# Altium integrated library IC.IntLib: 41 symbols
Pins are listed as number, name and electrical type; pins without a type are passive.

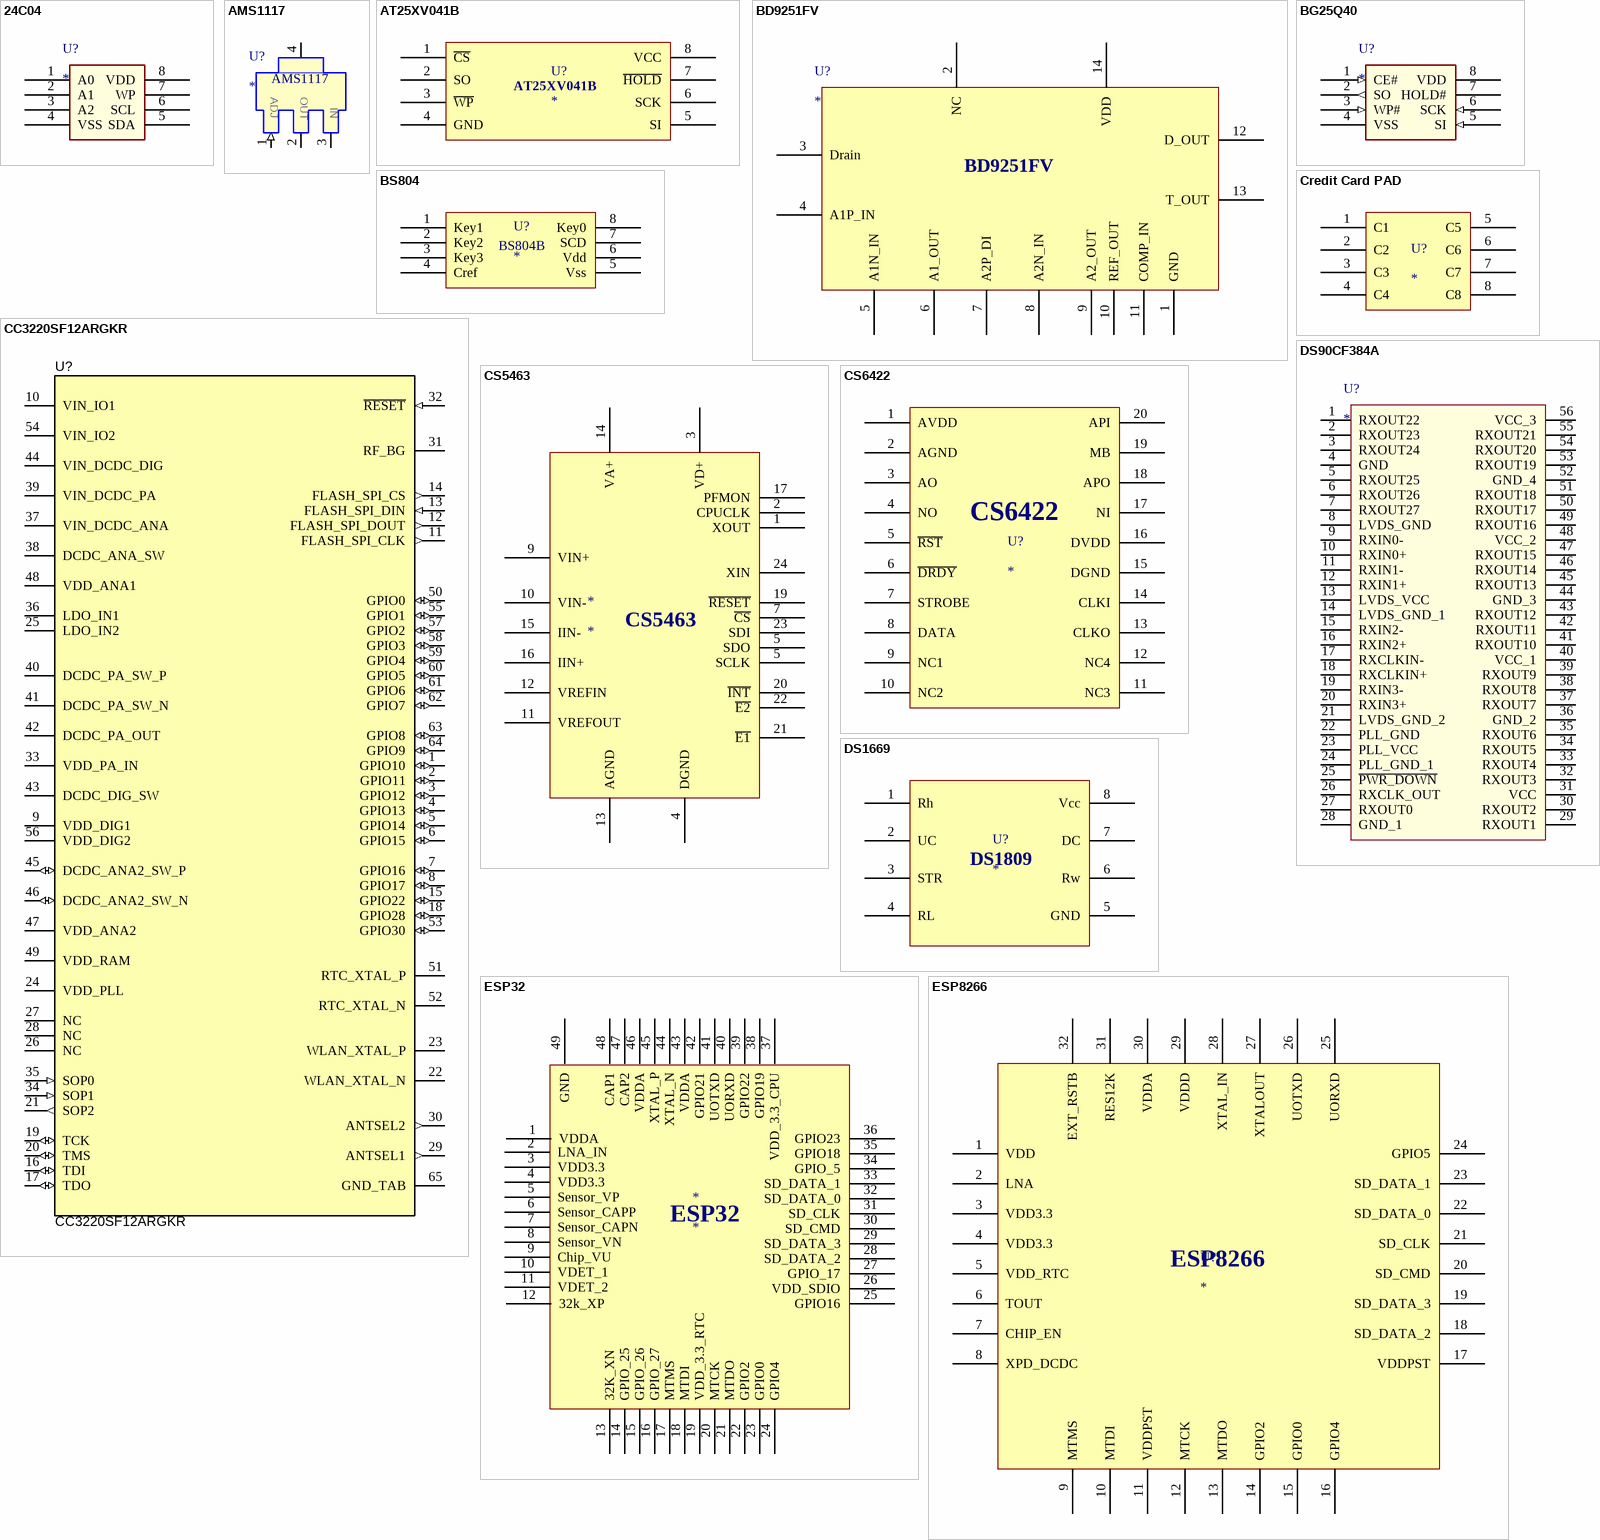
[diagram p0: symbols 24C04 to ESP8266]

## 24C04
designator U?
footprint SOIC-8
pins: 1 A0, 2 A1, 3 A2, 4 VSS, 5 SDA, 6 SCL, 7 WP, 8 VDD

## AMS1117
designator U?
footprint SOT223 (SOT223, 4-Leads, Body 6.50x7.00mm (avg), Pitch 2.30mm, IPC Medium Density)
pins: 1 ADJ (in), 2 OUT (power), 3 IN (power), 4 VOUT (power)

## AT25XV041B
designator U?
footprint 8-UDFN (8-UDFN, 8-Leads, Body 1.95x2.95mm, Pitch 0.50mm, IPC Medium Density)
pins: 1 ~{CS}, 2 SO, 3 ~{WP}, 4 GND, 5 SI, 6 SCK, 7 ~{HOLD}, 8 VCC

## BD9251FV
designator U?
footprint SSOP-B14 (SSOP, 14-Leads, Body 5.10x4.50mm, Pitch 0.65mm, IPC Medium Density)
pins: 1 GND, 2 NC, 3 Drain, 4 A1P_IN, 5 A1N_IN, 6 A1_OUT, 7 A2P_DI, 8 A2N_IN, 9 A2_OUT, 10 REF_OUT, 11 COMP_IN, 12 D_OUT, 13 T_OUT, 14 VDD

## BG25Q40
designator U?
footprint SOIC-8
pins: 1 CE# (in), 2 SO (out), 3 WP# (in), 4 VSS (power), 5 SI (in), 6 SCK (in), 7 HOLD#, 8 VDD (power)

## BS804
designator U?
footprint SOP-8
pins: 1 Key1, 2 Key2, 3 Key3, 4 Cref, 5 Vss, 6 Vdd, 7 SCD, 8 Key0
text: BS804B

## CC3220SF12ARGKR
designator U?
SimpleLink Wi-Fi and Internet-of-Things Solution, a Single-Chip Wireless MCU, RGK0064B (VQFN-64); Alternate PartNumber: CC3220SF12ARGKT; Manufacturer: Texas Instruments; SymbolCreator: Altium; CompType: IC; U/M: EA; SizeArea_mm2: 81; SizeAreaWB_mm2: 121; SizeX_mm: 9; SizeZ_mm: 1; SymbolVersion: 2015-09-21; PartNumber: CC3220SF12ARGKR; PackageReference: RGK0064B; MountType: SMT; ComponentLink1Description: Datasheet Link; ComponentLink1URL: https://sps06.itg.ti.com/sites/KMS/crossdivteams/altium/docs/ComponentDatasheets/SWAS035_CC3220_Advanced_Information_July2015.pdf; Publisher: Texas Instruments; LatestRevisionDate: 2016-11-18; Alternate Manufacturer: Texas Instruments; PackageDescription: VQFN-64; SizeY_mm: 9
footprint RGK0064B
pins: 1 GPIO10 (io), 2 GPIO11 (io), 3 GPIO12 (io), 4 GPIO13 (io), 5 GPIO14 (io), 6 GPIO15 (io), 7 GPIO16 (io), 8 GPIO17 (io), 9 VDD_DIG1 (power), 10 VIN_IO1 (power), 11 FLASH_SPI_CLK (out), 12 FLASH_SPI_DOUT (out), 13 FLASH_SPI_DIN (in), 14 FLASH_SPI_CS (out), 15 GPIO22 (io), 16 TDI (io), 17 TDO (io), 18 GPIO28 (io), 19 TCK (io), 20 TMS (io), 21 SOP2 (out), 22 WLAN_XTAL_N, 23 WLAN_XTAL_P, 24 VDD_PLL (power), 25 LDO_IN2 (power), 26 NC, 27 NC, 28 NC, 29 ANTSEL1 (out), 30 ANTSEL2 (out), 31 RF_BG, 32 ~{RESET} (in), 33 VDD_PA_IN (power), 34 SOP1 (in), 35 SOP0 (in), 36 LDO_IN1 (power), 37 VIN_DCDC_ANA (power), 38 DCDC_ANA_SW (power), 39 VIN_DCDC_PA (power), 40 DCDC_PA_SW_P (power), 41 DCDC_PA_SW_N (power), 42 DCDC_PA_OUT (power), 43 DCDC_DIG_SW (power), 44 VIN_DCDC_DIG (power), 45 DCDC_ANA2_SW_P (io), 46 DCDC_ANA2_SW_N (io), 47 VDD_ANA2 (power), 48 VDD_ANA1 (power), 49 VDD_RAM (power), 50 GPIO0 (io), 51 RTC_XTAL_P, 52 RTC_XTAL_N, 53 GPIO30 (io), 54 VIN_IO2 (power), 55 GPIO1 (io), 56 VDD_DIG2 (power), 57 GPIO2 (io), 58 GPIO3 (io), 59 GPIO4 (io), 60 GPIO5 (io), 61 GPIO6 (io), 62 GPIO7 (io), 63 GPIO8 (io), 64 GPIO9 (io), 65 GND_TAB (power)

## Credit Card PAD
designator U?
footprint Sim_Pad
pins: 1 C1, 2 C2, 3 C3, 4 C4, 5 C5, 6 C6, 7 C7, 8 C8

## CS5463
designator *
pins: 1 XOUT, 2 CPUCLK, 3 VD+, 4 DGND, 5 SCLK, 5 SDO, 7 ~{CS}, 9 VIN+, 10 VIN-, 11 VREFOUT, 12 VREFIN, 13 AGND, 14 VA+, 15 IIN-, 16 IIN+, 17 PFMON, 19 ~{RESET}, 20 ~{INT}, 21 ~{E1}, 22 ~{E2}, 23 SDI, 24 XIN

## CS6422
designator U?
Supplier 1: Mouser; Supplier Part Number 1: 777-CS6422-CSZR
footprint SOIC20
pins: 1 AVDD, 2 AGND, 3 AO, 4 NO, 5 ~{RST}, 6 ~{DRDY}, 7 STROBE, 8 DATA, 9 NC1, 10 NC2, 11 NC3, 12 NC4, 13 CLKO, 14 CLKI, 15 DGND, 16 DVDD, 17 NI, 18 APO, 19 MB, 20 API

## DS90CF384A
designator U?
DS90CF384A
footprint TSSOP-56
pins: 1 RXOUT22, 2 RXOUT23, 3 RXOUT24, 4 GND, 5 RXOUT25, 6 RXOUT26, 7 RXOUT27, 8 LVDS_GND, 9 RXIN0-, 10 RXIN0+, 11 RXIN1-, 12 RXIN1+, 13 LVDS_VCC (power), 14 LVDS_GND_1, 15 RXIN2-, 16 RXIN2+, 17 RXCLKIN-, 18 RXCLKIN+, 19 RXIN3-, 20 RXIN3+, 21 LVDS_GND_2, 22 PLL_GND, 23 PLL_VCC (power), 24 PLL_GND_1, 25 ~{PWR_DOWN}, 26 RXCLK_OUT, 27 RXOUT0, 28 GND_1, 29 RXOUT1, 30 RXOUT2, 31 VCC (power), 32 RXOUT3, 33 RXOUT4, 34 RXOUT5, 35 RXOUT6, 36 GND_2, 37 RXOUT7, 38 RXOUT8, 39 RXOUT9, 40 VCC_1 (power), 41 RXOUT10, 42 RXOUT11, 43 RXOUT12, 44 GND_3, 45 RXOUT13, 46 RXOUT14, 47 RXOUT15, 48 VCC_2 (power), 49 RXOUT16, 50 RXOUT17, 51 RXOUT18, 52 GND_4, 53 RXOUT19, 54 RXOUT20, 55 RXOUT21, 56 VCC_3 (power)

## DS1669
designator U?
footprint uSOP-8
pins: 1 Rh, 2 UC, 3 STR, 4 RL, 5 GND, 6 Rw, 7 DC, 8 Vcc
text: DS1809

## ESP32
designator *
footprint QFN48_6x6 (QFN, 48-Leads, Body 6.05x6.05mm, Pitch 0.40mm, Thermal Pad 4.25x4.25mm, IPC Medium Density)
pins: 1 VDDA, 2 LNA_IN, 3 VDD3.3, 4 VDD3.3, 5 Sensor_VP, 6 Sensor_CAPP, 7 Sensor_CAPN, 8 Sensor_VN, 9 Chip_VU, 10 VDET_1, 11 VDET_2, 12 32k_XP, 13 32K_XN, 14 GPIO_25, 15 GPIO_26, 16 GPIO_27, 17 MTMS, 18 MTDI, 19 VDD_3.3_RTC, 20 MTCK, 21 MTDO, 22 GPIO2, 23 GPIO0, 24 GPIO4, 25 GPIO16, 26 VDD_SDIO, 27 GPIO_17, 28 SD_DATA_2, 29 SD_DATA_3, 30 SD_CMD, 31 SD_CLK, 32 SD_DATA_0, 33 SD_DATA_1, 34 GPIO_5, 35 GPIO18, 36 GPIO23, 37 VDD_3.3_CPU, 38 GPIO19, 39 GPIO22, 40 UORXD, 41 UOTXD, 42 GPIO21, 43 VDDA, 44 XTAL_N, 45 XTAL_P, 46 VDDA, 47 CAP2, 48 CAP1, 49 GND

## ESP8266
designator U?
footprint QFN32
pins: 1 VDD, 2 LNA, 3 VDD3.3, 4 VDD3.3, 5 VDD_RTC, 6 TOUT, 7 CHIP_EN, 8 XPD_DCDC, 9 MTMS, 10 MTDI, 11 VDDPST, 12 MTCK, 13 MTDO, 14 GPIO2, 15 GPIO0, 16 GPIO4, 17 VDDPST, 18 SD_DATA_2, 19 SD_DATA_3, 20 SD_CMD, 21 SD_CLK, 22 SD_DATA_0, 23 SD_DATA_1, 24 GPIO5, 25 UORXD, 26 UOTXD, 27 XTALOUT, 28 XTAL_IN, 29 VDDD, 30 VDDA, 31 RES12K, 32 EXT_RSTB

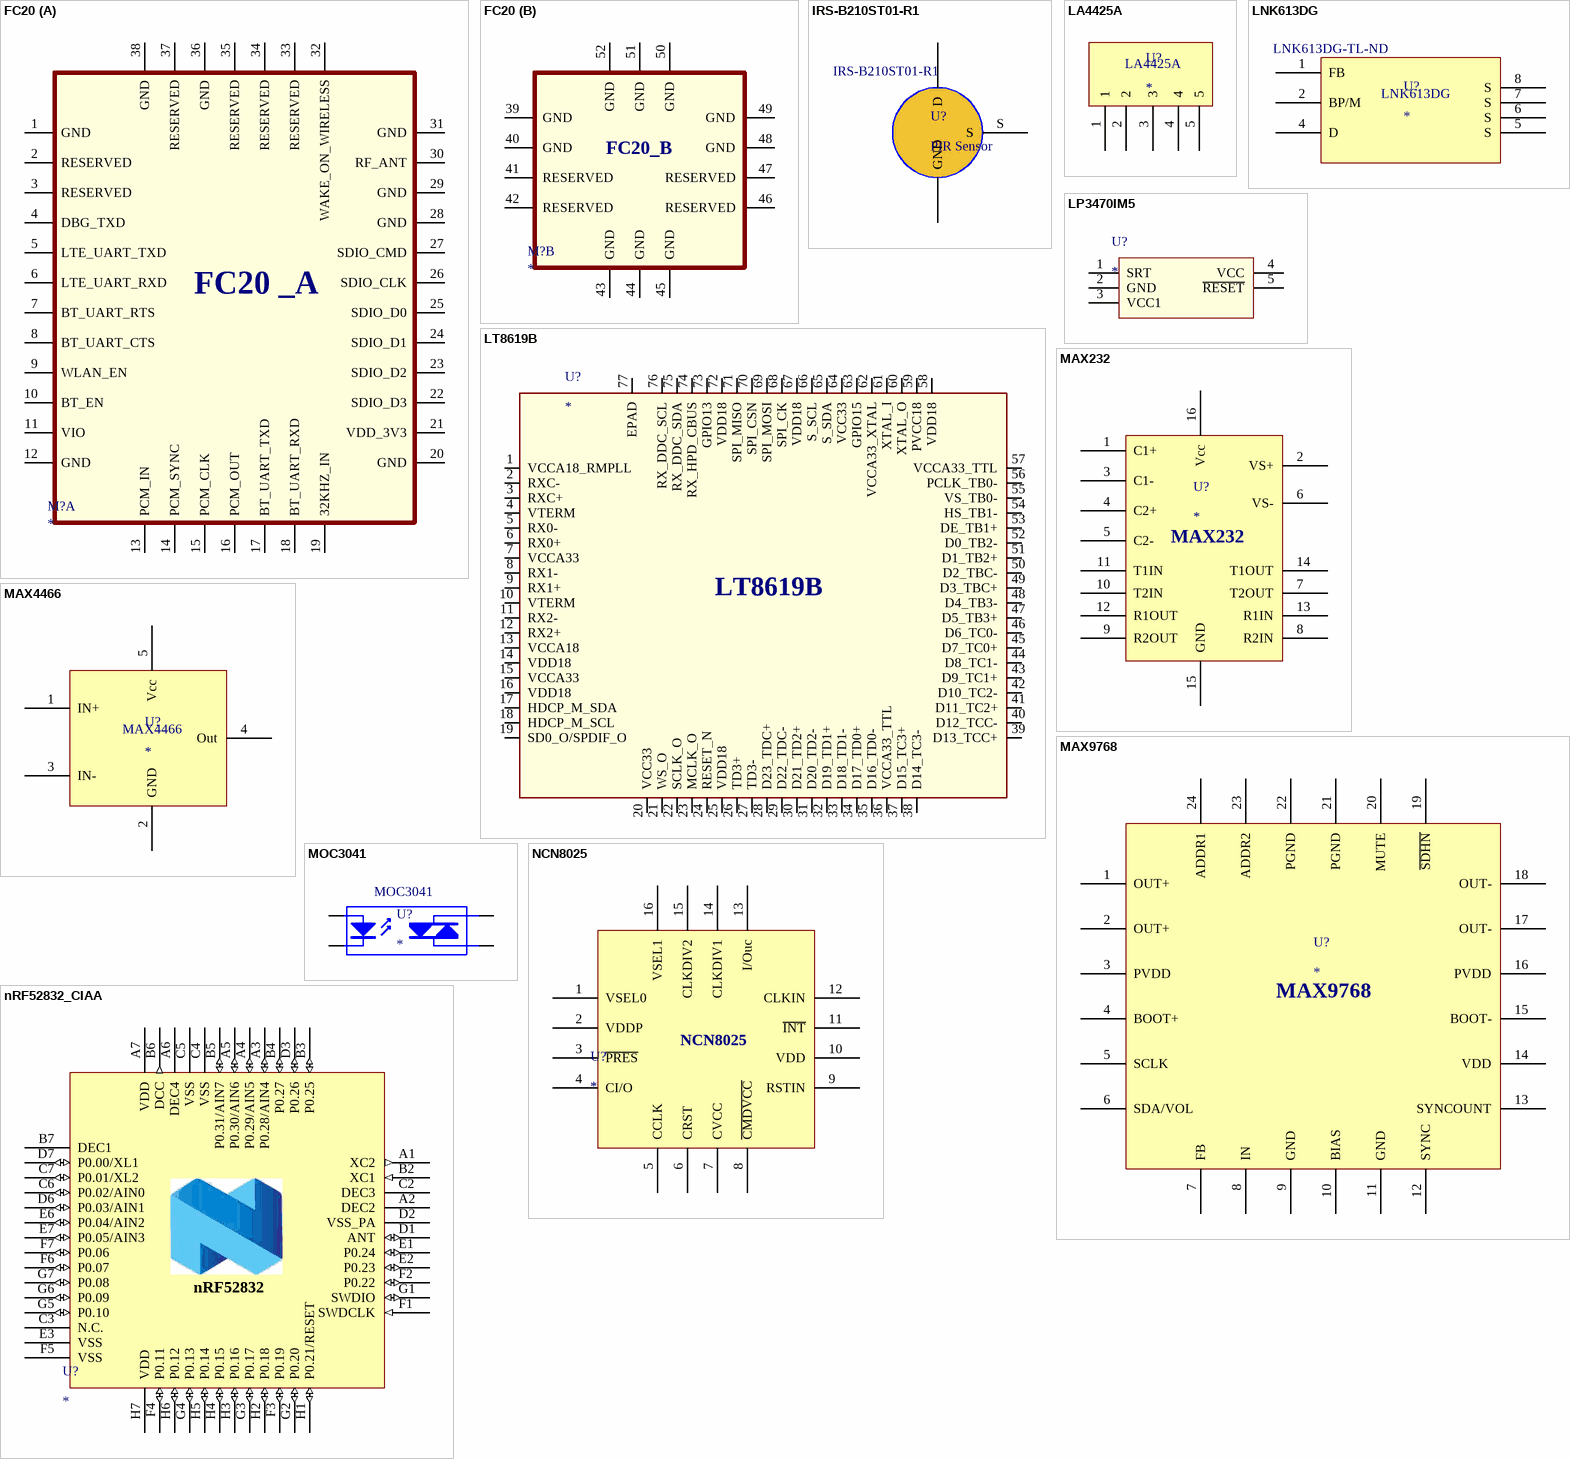
[diagram p1: symbols FC20 to nRF52832_CIAA]

## FC20
designator M?
footprint FC_20
part A pins: 1 GND, 2 RESERVED, 3 RESERVED, 4 DBG_TXD, 5 LTE_UART_TXD, 6 LTE_UART_RXD, 7 BT_UART_RTS, 8 BT_UART_CTS, 9 WLAN_EN, 10 BT_EN, 11 VIO, 12 GND, 13 PCM_IN, 14 PCM_SYNC, 15 PCM_CLK, 16 PCM_OUT, 17 BT_UART_TXD, 18 BT_UART_RXD, 19 32KHZ_IN, 20 GND, 21 VDD_3V3, 22 SDIO_D3, 23 SDIO_D2, 24 SDIO_D1, 25 SDIO_D0, 26 SDIO_CLK, 27 SDIO_CMD, 28 GND, 29 GND, 30 RF_ANT, 31 GND, 32 WAKE_ON_WIRELESS, 33 RESERVED, 34 RESERVED, 35 RESERVED, 36 GND, 37 RESERVED, 38 GND
part B pins: 39 GND, 40 GND, 41 RESERVED, 42 RESERVED, 43 GND, 44 GND, 45 GND, 46 RESERVED, 47 RESERVED, 48 GND, 49 GND, 50 GND, 51 GND, 52 GND
part A text: FC20 _A
part B text: FC20_B

## IRS-B210ST01-R1
designator U?, comment PIR Sensor
Supplier 1: Digi-Key; Supplier Part Number 1: 490-12776-1-ND
footprint IRS-B210ST01-R1
pins: D, G GND, S

## LA4425A
designator U?
footprint LA4425A
pins: 1, 2, 3, 4, 5

## LNK613DG
designator U?  Supplier Part Number 1: LNK613DG-TL-ND
Supplier 1: Digi-Key
footprint SO-8C
pins: 1 FB, 2 BP/M, 4 D, 5 S, 6 S, 7 S, 8 S

## LP3470IM5
designator U?
footprint SOT23_5
pins: 1 SRT, 2 GND, 3 VCC1, 4 VCC, 5 ~{RESET}

## LT8619B
designator U?
footprint QFN76
pins: 1 VCCA18_RMPLL, 2 RXC-, 3 RXC+, 4 VTERM, 5 RX0-, 6 RX0+, 7 VCCA33, 8 RX1-, 9 RX1+, 10 VTERM, 11 RX2-, 12 RX2+, 13 VCCA18, 14 VDD18, 15 VCCA33, 16 VDD18, 17 HDCP_M_SDA, 18 HDCP_M_SCL, 19 SD0_O/SPDIF_O, 20 VCC33, 21 WS_O, 22 SCLK_O, 23 MCLK_O, 24 RESET_N, 25 VDD18, 26 TD3+, 27 TD3-, 28 D23_TDC+, 29 D22_TDC-, 30 D21_TD2+, 31 D20_TD2-, 32 D19_TD1+, 33 D18_TD1-, 34 D17_TD0+, 35 D16_TD0-, 36 VCCA33_TTL, 37 D15_TC3+, 38 D14_TC3-, 39 D13_TCC+, 40 D12_TCC-, 41 D11_TC2+, 42 D10_TC2-, 43 D9_TC1+, 44 D8_TC1-, 45 D7_TC0+, 46 D6_TC0-, 47 D5_TB3+, 48 D4_TB3-, 49 D3_TBC+, 50 D2_TBC-, 51 D1_TB2+, 52 D0_TB2-, 53 DE_TB1+, 54 HS_TB1-, 55 VS_TB0-, 56 PCLK_TB0-, 57 VCCA33_TTL, 58 VDD18, 59 PVCC18, 60 XTAL_O, 61 XTAL_I, 62 VCCA33_XTAL, 63 GPIO15, 64 VCC33, 65 S_SDA, 66 S_SCL, 67 VDD18, 68 SPI_CK, 69 SPI_MOSI, 70 SPI_CSN, 71 SPI_MISO, 72 VDD18, 73 GPIO13, 74 RX_HPD_CBUS, 75 RX_DDC_SDA, 76 RX_DDC_SCL, 77 EPAD

## MAX232
designator U?
footprint SOIC16 (9.90 mm × 3.91 mm)
pins: 1 C1+, 2 VS+, 3 C1-, 4 C2+, 5 C2-, 6 VS-, 7 T2OUT, 8 R2IN, 9 R2OUT, 10 T2IN, 11 T1IN , 12 R1OUT, 13 R1IN, 14 T1OUT, 15 GND, 16 Vcc

## MAX4466
designator U?
footprint SOT23
pins: 1 IN+, 2 GND, 3 IN-, 4 Out, 5 Vcc

## MAX9768
designator U?
footprint TQFN-24 4x4
pins: 1 OUT+, 2 OUT+, 3 PVDD, 4 BOOT+, 5 SCLK, 6 SDA/VOL, 7 FB, 8 IN, 9 GND, 10 BIAS, 11 GND, 12 SYNC, 13 SYNCOUNT, 14 VDD, 15 BOOT-, 16 PVDD, 17 OUT-, 18 OUT-, 19 ~{SDHN}, 20 MUTE, 21 PGND, 22 PGND, 23 ADDR2, 24 ADDR1

## MOC3041
designator U?
Supplier 1: RSComponents; Supplier Part Number 1: 806-6023P
footprint SMT-6 PIN (SOP, 6-Leads, Body 8.50x6.35mm, Pitch 2.54mm, IPC Medium Density)
pins: 1 A, 2 K, 4 A/K, 6 A/K

## NCN8025
designator U?
footprint QFN-16
pins: 1 VSEL0, 2 VDDP, 3 ~{PRES}, 4 CI/O, 5 CCLK, 6 CRST, 7 CVCC, 8 ~{CMDVCC}, 9 RSTIN, 10 VDD, 11 ~{INT}, 12 CLKIN, 13 I/Ouc, 14 CLKDIV1, 15 CLKDIV2, 16 VSEL1

## nRF52832_CIAA
designator U?
footprint BGA50C40P7X8_295X322X50
pins: A1 XC2 (out), A2 DEC2 (power), A3 P0.28/AIN4 (io), A4 P0.29/AIN5 (io), A5 P0.30/AIN6 (io), A6 DEC4 (power), A7 VDD (power), B2 XC1 (in), B3 P0.25 (io), B4 P0.27 (io), B5 P0.31/AIN7 (io), B6 DCC (out), B7 DEC1 (power), C2 DEC3 (power), C3 N.C. (power), C4 VSS (power), C5 VSS (power), C6 P0.02/AIN0 (io), C7 P0.01/XL2 (io), D1 ANT (io), D2 VSS_PA (power), D3 P0.26 (io), D6 P0.03/AIN1 (io), D7 P0.00/XL1 (io), E1 P0.24 (io), E2 P0.23 (io), E3 VSS (power), E6 P0.04/AIN2 (io), E7 P0.05/AIN3 (io), F1 SWDCLK (in), F2 P0.22 (io), F3 P0.19 (io), F4 P0.11 (io), F5 VSS (power), F6 P0.07 (io), F7 P0.06 (io), G1 SWDIO (io), G2 P0.20 (io), G3 P0.17 (io), G4 P0.13 (io), G5 P0.10 (io), G6 P0.09 (io), G7 P0.08 (io), H1 P0.21/RESET (io), H2 P0.18 (io), H3 P0.16 (io), H4 P0.15 (io), H5 P0.14 (io), H6 P0.12 (io), H7 VDD (power)
text: nRF52832

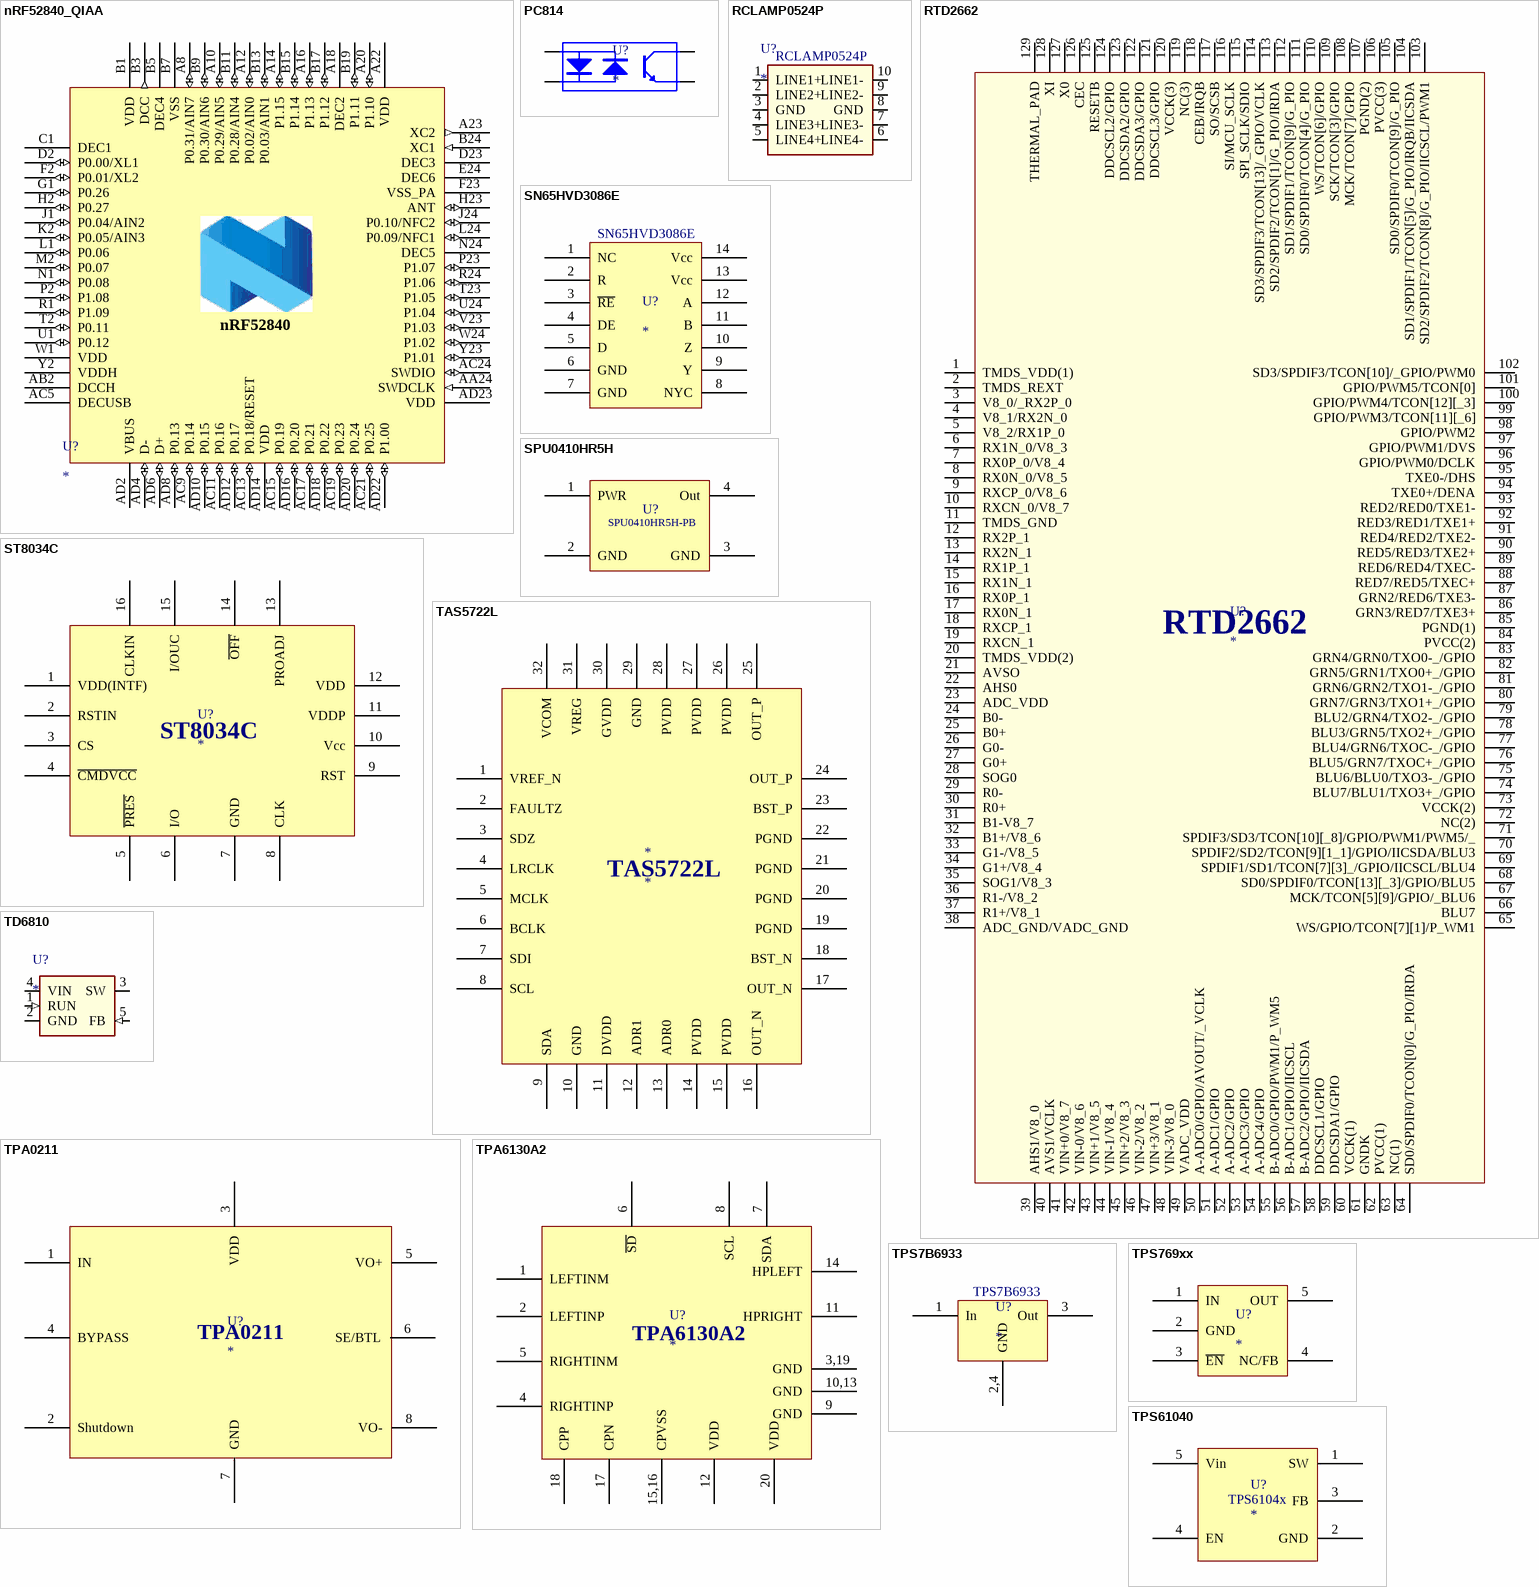
[diagram p2: symbols nRF52840_QIAA to TPS61040]

## nRF52840_QIAA
designator U?
footprint nRF52840_QIAA
pins: A8 P0.31/AIN7 (io), A10 P0.29/AIN5 (io), A12 P0.02/AIN0 (io), A14 P1.15 (io), A16 P1.13 (io), A18 DEC2 (power), A20 P1.10 (io), A22 VDD (power), A23 XC2 (out), AA24 SWDCLK (in), AB2 DCCH (power), AC5 DECUSB (power), AC9 P0.14 (io), AC11 P0.16 (io), AC13 P0.18/RESET (io), AC15 P0.19 (io), AC17 P0.21 (io), AC19 P0.23 (io), AC21 P0.25 (io), AC24 SWDIO (io), AD2 VBUS (power), AD4 D- (io), AD6 D+ (io), AD8 P0.13 (io), AD10 P0.15 (io), AD12 P0.17 (io), AD14 VDD (power), AD16 P0.20 (io), AD18 P0.22 (io), AD20 P0.24 (io), AD22 P1.00 (io), AD23 VDD (power), B1 VDD (power), B3 DCC (out), B5 DEC4 (power), B7 VSS (power), B9 P0.30/AIN6 (io), B11 P0.28/AIN4 (io), B13 P0.03/AIN1 (io), B15 P1.14 (io), B17 P1.12 (io), B19 P1.11 (io), B24 XC1 (in), C1 DEC1 (power), D2 P0.00/XL1 (io), D23 DEC3 (power), E24 DEC6 (power), F2 P0.01/XL2 (io), F23 VSS_PA (power), G1 P0.26 (io), H2 P0.27 (io), H23 ANT (io), J1 P0.04/AIN2 (io), J24 P0.10/NFC2 (io), K2 P0.05/AIN3 (io), L1 P0.06 (io), L24 P0.09/NFC1 (io), M2 P0.07 (io), N1 P0.08 (io), N24 DEC5 (power), P2 P1.08 (io), P23 P1.07 (io), R1 P1.09 (io), R24 P1.06 (io), T2 P0.11 (io), T23 P1.05 (io), U1 P0.12 (io), U24 P1.04 (io), V23 P1.03 (io), W1 VDD (power), W24 P1.02 (io), Y2 VDDH (power), Y23 P1.01 (io)
text: nRF52840

## PC814
designator U?
footprint SMT-4
pins: 1 A "Anode", 2 K "Cathode", 3 E "Emitter", 4 C "Collector"

## RCLAMP0524P
designator U?
footprint RCLAMP0524P
pins: 1 LINE1+, 2 LINE2+, 3 GND (power), 4 LINE3+, 5 LINE4+, 6 LINE4-, 7 LINE3-, 8 GND (power), 9 LINE2-, 10 LINE1-

## RTD2662
designator U?
footprint QFP128
pins: 1 TMDS_VDD(1), 2 TMDS_REXT, 3 V8_0/_RX2P_0, 4 V8_1/RX2N_0, 5 V8_2/RX1P_0, 6 RX1N_0/V8_3, 7 RX0P_0/V8_4, 8 RX0N_0/V8_5, 9 RXCP_0/V8_6, 10 RXCN_0/V8_7, 11 TMDS_GND, 12 RX2P_1, 13 RX2N_1, 14 RX1P_1, 15 RX1N_1, 16 RX0P_1, 17 RX0N_1, 18 RXCP_1, 19 RXCN_1, 20 TMDS_VDD(2), 21 AVSO, 22 AHS0, 23 ADC_VDD, 24 B0-, 25 B0+, 26 G0-, 27 G0+, 28 SOG0, 29 R0-, 30 R0+, 31 B1-V8_7, 32 B1+/V8_6, 33 G1-/V8_5, 34 G1+/V8_4, 35 SOG1/V8_3, 36 R1-/V8_2, 37 R1+/V8_1, 38 ADC_GND/VADC_GND, 39 AHS1/V8_0, 40 AVS1/VCLK, 41 VIN+0/V8_7, 42 VIN-0/V8_6, 43 VIN+1/V8_5, 44 VIN-1/V8_4, 45 VIN+2/V8_3, 46 VIN-2/V8_2, 47 VIN+3/V8_1, 48 VIN-3/V8_0, 49 VADC_VDD, 50 A-ADC0/GPIO/AVOUT/_VCLK, 51 A-ADC1/GPIO, 52 A-ADC2/GPIO, 53 A-ADC3/GPIO, 54 A-ADC4/GPIO, 55 B-ADC0/GPIO/PWM1/P_WM5, 56 B-ADC1/GPIO/IICSCL, 57 B-ADC2/GPIO/IICSDA, 58 DDCSCL1/GPIO, 59 DDCSDA1/GPIO, 60 VCCK(1), 61 GNDK, 62 PVCC(1), 63 NC(1), 64 SD0/SPDIF0/TCON[0]/G_PIO/IRDA, 65 WS/GPIO/TCON[7][1]/P_WM1, 66 BLU7, 67 MCK/TCON[5][9]/GPIO/_BLU6, 68 SD0/SPDIF0/TCON[13][_3]/GPIO/BLU5, 69 SPDIF1/SD1/TCON[7][3]_/GPIO/IICSCL/BLU4, 70 SPDIF2/SD2/TCON[9][1_1]/GPIO/IICSDA/BLU3, 71 SPDIF3/SD3/TCON[10][_8]/GPIO/PWM1/PWM5/_, 72 NC(2), 73 VCCK(2), 74 BLU7/BLU1/TXO3+_/GPIO, 75 BLU6/BLU0/TXO3-_/GPIO, 76 BLU5/GRN7/TXOC+_/GPIO, 77 BLU4/GRN6/TXOC-_/GPIO, 78 BLU3/GRN5/TXO2+_/GPIO, 79 BLU2/GRN4/TXO2-_/GPIO, 80 GRN7/GRN3/TXO1+_/GPIO, 81 GRN6/GRN2/TXO1-_/GPIO, 82 GRN5/GRN1/TXO0+_/GPIO, 83 GRN4/GRN0/TXO0-_/GPIO, 84 PVCC(2), 85 PGND(1), 86 GRN3/RED7/TXE3+, 87 GRN2/RED6/TXE3-, 88 RED7/RED5/TXEC+, 89 RED6/RED4/TXEC-, 90 RED5/RED3/TXE2+, 91 RED4/RED2/TXE2-, 92 RED3/RED1/TXE1+, 93 RED2/RED0/TXE1-, 94 TXE0+/DENA, 95 TXE0-/DHS, 96 GPIO/PWM0/DCLK, 97 GPIO/PWM1/DVS, 98 GPIO/PWM2, 99 GPIO/PWM3/TCON[11][_6], 100 GPIO/PWM4/TCON[12][_3], 101 GPIO/PWM5/TCON[0], 102 SD3/SPDIF3/TCON[10]/_GPIO/PWM0, 103 SD2/SPDIF2/TCON[8]/G_PIO/IICSCL/PWM1, 104 SD1/SPDIF1/TCON[5]/G_PIO/IRQB/IICSDA, 105 SD0/SPDIF0/TCON[9]/G_PIO, 106 PVCC(3), 107 PGND(2), 108 MCK/TCON[7]/GPIO, 109 SCK/TCON[3]/GPIO, 110 WS/TCON[6]/GPIO, 111 SD0/SPDIF0/TCON[4]/G_PIO, 112 SD1/SPDIF1/TCON[9]/G_PIO, 113 SD2/SPDIF2/TCON[1]/G_PIO/IRDA, 114 SD3/SPDIF3/TCON[13]/_GPIO/VCLK, 115 SPI_SCLK/SDIO, 116 SI/MCU_SCLK, 117 SO/SCSB, 118 CEB/IRQB, 119 NC(3), 120 VCCK(3), 121 DDCSCL3/GPIO, 122 DDCSDA3/GPIO, 123 DDCSDA2/GPIO, 124 DDCSCL2/GPIO, 125 RESETB, 126 CEC, 127 X0, 128 XI, 129 THERMAL_PAD

## SN65HVD3086E
designator U?
pins: 1 NC, 2 R, 3 ~{RE}, 4 DE, 5 D, 6 GND, 7 GND, 8 NYC, 9 Y, 10 Z, 11 B, 12 A, 13 Vcc, 14 Vcc

## SPU0410HR5H
designator U?  (value not drawn)
footprint SPW2430HR5H-B
pins: 1 PWR, 2 GND, 3 GND, 4 Out
text: SPU0410HR5H‐PB

## ST8034C
designator U?
footprint QFN16
pins: 1 VDD(INTF), 2 RSTIN, 3 CS, 4 ~{CMDVCC}, 5 ~{PRES}, 6 I/O, 7 GND, 8 CLK, 9 RST, 10 Vcc, 11 VDDP, 12 VDD, 13 PROADJ, 14 ~{OFF}, 15 I/OUC, 16 CLKIN

## TAS5722L
designator *
pins: 1 VREF_N, 2 FAULTZ, 3 SDZ, 4 LRCLK, 5 MCLK, 6 BCLK, 7 SDI, 8 SCL, 9 SDA, 10 GND, 11 DVDD, 12 ADR1, 13 ADR0, 14 PVDD, 15 PVDD, 16 OUT_N, 17 OUT_N, 18 BST_N, 19 PGND, 20 PGND, 21 PGND, 22 PGND, 23 BST_P, 24 OUT_P, 25 OUT_P, 26 PVDD, 27 PVDD, 28 PVDD, 29 GND, 30 GVDD, 31 VREG, 32 VCOM

## TD6810
designator U?
footprint SOT23
pins: 1 RUN (in), 2 GND (power), 3 SW (power), 4 VIN (power), 5 FB (in)

## TPA0211
designator U?
footprint S-PDSO-G8
pins: 1 IN, 2 Shutdown, 3 VDD, 4 BYPASS, 5 VO+, 6 SE/BTL, 7 GND, 8 VO-

## TPA6130A2
designator U?
footprint WQFN20
pins: 1 LEFTINM, 2 LEFTINP, 3,19 GND, 4 RIGHTINP, 5 RIGHTINM, 6 ~{SD}, 7 SDA, 8 SCL, 9 GND, 10,13 GND, 11 HPRIGHT, 12 VDD, 14 HPLEFT, 15,16 CPVSS, 17 CPN, 18 CPP, 20 VDD

## TPS7B6933
designator U?
footprint SOT223 (SOT223, 4-Leads, Body 6.50x7.00mm (avg), Pitch 2.30mm, IPC Medium Density)
pins: 1 In, 2,4 GND, 3 Out

## TPS769xx
designator U?
pins: 1 IN, 2 GND, 3 ~{EN}, 4 NC/FB, 5 OUT

## TPS61040
designator U?
footprint SOT23
pins: 1 SW, 2 GND, 3 FB, 4 EN, 5 Vin
text: TPS6104x

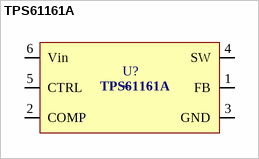
[diagram p3: symbol TPS61161A]

## TPS61161A
designator U?
footprint WSON-6
pins: 1 FB, 2 COMP, 3 GND, 4 SW, 5 CTRL, 6 Vin